# EAGLE library part RFM23BP (library RFM23)
The RFM23BP is a medium power, low cost radio that is capable of operating in the 434MHz and 900MHz open bands. It's frequency is software defined and there are some very good libraries written for it.
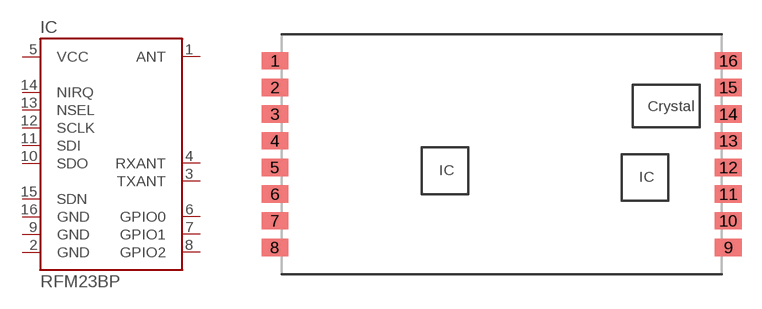
[diagram p0: symbol with the pads of RFM23BP-S2; footprint RFM23BP-S2]

Designator prefix IC

## RFM23BPSMD  [RFM23BP-S2]
1  ANT
2  GND  pwr
3  TXANT  in
4  RXANT  in
5  VCC
6  GPIO0
7  GPIO1
8  GPIO2
9  GND  pwr
10  SDO  out
11  SDI  in
12  SCLK  in
13  NSEL  in
14  NIRQ  out
15  SDN  in
16  GND  pwr

## Footprint RFM23BP-S2 (pad centres in mm)
Package for Hope RF s RFM22-xxx-S2 SMD wireless transciever, xxx is module s frequency band. *Unproven*''
smd 2 x 1.3: 1 -17,7; 2 -17,5; 3 -17,3; 4 -17,1; 5 -17,-1; 6 -17,-3; 7 -17,-5; 8 -17,-7; 9 17,-7; 10 17,-5; 11 17,-3; 12 17,-1; 13 17,1; 14 17,3; 15 17,5; 16 17,7